# Altium schematic symbol library MAX14757EUE+T.SchLib: 1 symbol
Pins are listed as number, name and electrical type; pins without a type are passive.

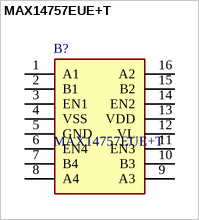
[diagram p0: symbol MAX14757EUE+T]

## MAX14757EUE+T
designator B?
Analog Switch ICs Quad SPST +70V Analog Switches; Manufacturer_Name: Analog Devices; Geometry.Height: 1.1mm; Mouser Part Number: 700-MAX14757EUE+T; Mouser Price/Stock: https://www.mouser.co.uk/ProductDetail/Analog-Devices-Maxim-Integrated/MAX14757EUE%2bT?qs=tT6YvvQkxsyGH%2F%2FLSPFCfQ%3D%3D; Manufacturer_Part_Number: MAX14757EUE+T; Datasheet Link: https://datasheets.maximintegrated.com/en/ds/MAX14756-MAX14758.pdf
footprint SOP65P640X110-16N
pins: 1 A1, 2 B1, 3 EN1, 4 VSS, 5 GND, 6 EN4, 7 B4, 8 A4, 9 A3, 10 B3, 11 EN3, 12 VL, 13 VDD, 14 EN2, 15 B2, 16 A2